# EAGLE library part LM26420XMH (library distributed-vision)
Frequency Synchronous Step-Down DCDC Regulator. Datasheet link: https://www.ti.com/lit/ds/symlink/lm26420.pdf?ts=1604867907885&ref_url=https%253A%252F%252Fwww.google.com%252F
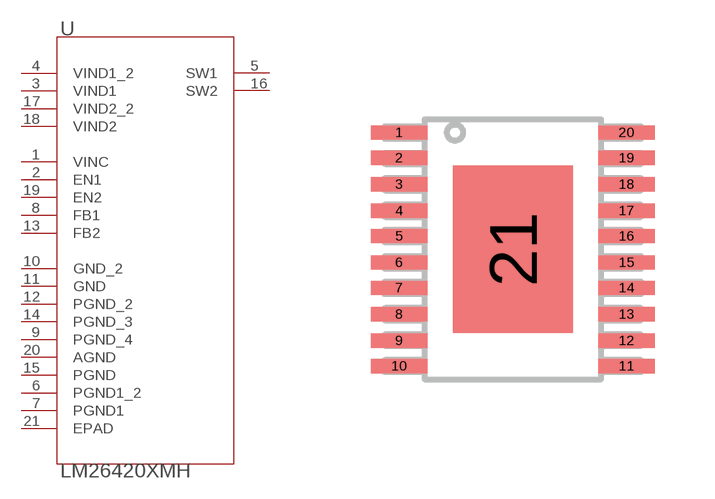
[diagram p8: symbol with the pads of PWP0020A; footprint PWP0020A]

Designator prefix U

## LM26420XMH (DKPN: 296-46301-1-ND)  [PWP0020A]
1  VINC  pwr
2  EN1  in
3  VIND1  pwr
4  VIND1_2  pwr
5  SW1  out
6  PGND1_2  pas
7  PGND1  pas
8  FB1  in
9  PGND_4  pas
10  GND_2  pas
11  GND  pas
12  PGND_2  pas
13  FB2  in
14  PGND_3  pas
15  PGND  pas
16  SW2  out
17  VIND2_2  pwr
18  VIND2  pwr
19  EN2  in
20  AGND  pas
21  EPAD  pas

## Footprint PWP0020A (pad centres in mm)
Datasheet link: https://www.ti.com/lit/ds/symlink/lm26420.pdf?ts=1604867907885&ref_url=https%253A%252F%252Fwww.google.com%252F
smd 1.422 x 0.356: 1 -2.845,2.921; 2 -2.845,2.286; 3 -2.845,1.626; 4 -2.845,0.965; 5 -2.845,0.33; 6 -2.845,-0.33; 7 -2.845,-0.965; 8 -2.845,-1.626; 9 -2.845,-2.286; 10 -2.845,-2.921; 11 2.845,-2.921; 12 2.845,-2.286; 13 2.845,-1.626; 14 2.845,-0.965; 15 2.845,-0.33; 16 2.845,0.33; 17 2.845,0.965; 18 2.845,1.626; 19 2.845,2.286; 20 2.845,2.921
smd 2.997 x 4.191: 21 0,0